# EAGLE library part PICAXE-20M2/20X2 (library PICAXEv2)
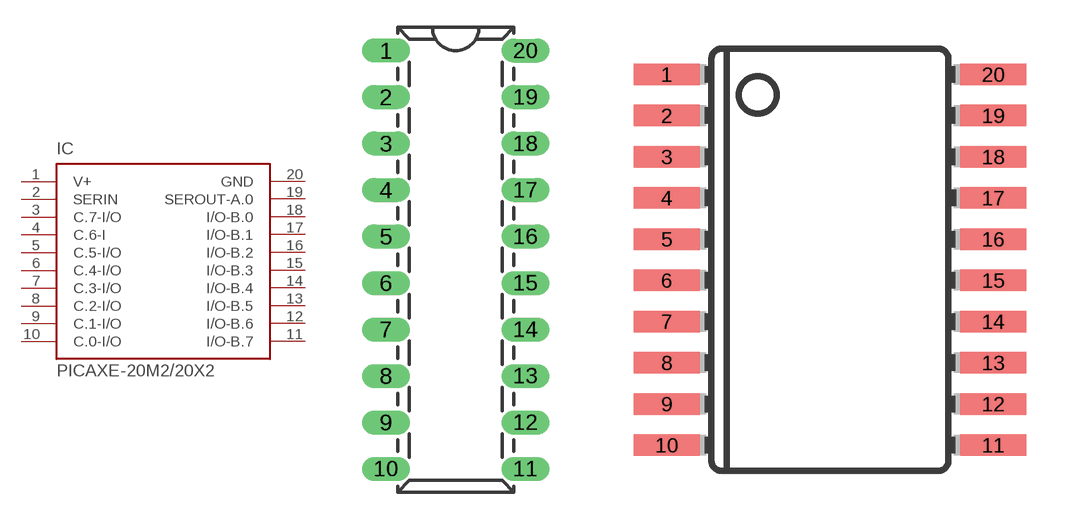
[diagram p3: symbol with the pads of DIL20; footprints DIL20, SOIC20W]

Designator prefix IC

## PICAXE-20M2/20X2-DIL  [DIL20]
1  V+  pwr
2  SERIN  in
3  C.7-I/O
4  C.6-I  in
5  C.5-I/O
6  C.4-I/O
7  C.3-I/O
8  C.2-I/O
9  C.1-I/O
10  C.0-I/O
11  I/O-B.7
12  I/O-B.6
13  I/O-B.5
14  I/O-B.4
15  I/O-B.3
16  I/O-B.2
17  I/O-B.1
18  I/O-B.0
19  SEROUT-A.0  out
20  GND  pwr

## PICAXE-20M2/20X2-SMD  [SOIC20W]
Pads as for DIL20

## Footprint DIL20 (pad centres in mm)
drill 0.8 pad 1.27 long: 1 -3.81,10.16; 2 -3.81,7.62; 3 -3.81,5.08; 4 -3.81,2.54; 5 -3.81,0; 6 -3.81,-2.54; 7 -3.81,-5.08; 8 -3.81,-7.62; 9 -3.81,-10.16; 10 -3.81,-12.7; 11 3.81,-12.7; 12 3.81,-10.16; 13 3.81,-7.62; 14 3.81,-5.08; 15 3.81,-2.54; 16 3.81,0; 17 3.81,2.54; 18 3.81,5.08; 19 3.81,7.62; 20 3.81,10.16

## Footprint SOIC20W (pad centres in mm)
smd 2.032 x 0.66: 1 -5.029,5.715; 2 -5.029,4.445; 3 -5.029,3.175; 4 -5.029,1.905; 5 -5.029,0.635; 6 -5.029,-0.635; 7 -5.029,-1.905; 8 -5.029,-3.175; 9 -5.029,-4.445; 10 -5.029,-5.715; 11 5.029,-5.715; 12 5.029,-4.445; 13 5.029,-3.175; 14 5.029,-1.905; 15 5.029,-0.635; 16 5.029,0.635; 17 5.029,1.905; 18 5.029,3.175; 19 5.029,4.445; 20 5.029,5.715